# EAGLE library part ADC_ADS1115 (library LEMSv2)
ADS1115 - 16-bit 4-Channel I2C ADC with Internal PGA VDD: 2.0-5.5V Sampling Rate: 8-860ksps Gain Settings: 2/3, 1, 2, 4, 8, 16
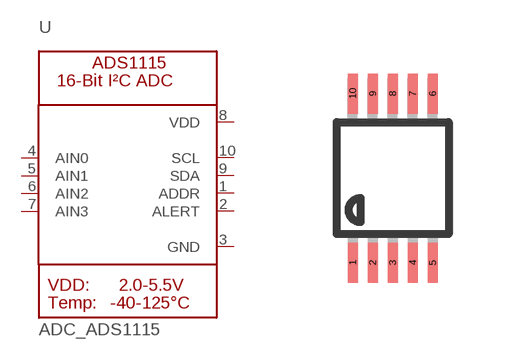
[diagram p10: symbol with the pads of MSOP10; footprint MSOP10]

Designator prefix U

## ADC_ADS1115  [MSOP10]
1  ADDR
2  ALERT
3  GND
4  AIN0
5  AIN1
6  AIN2
7  AIN3
8  VDD
9  SDA
10  SCL

## Footprint MSOP10 (pad centres in mm)
10-Lead Mini Small Outline Package [MSOP]
smd 0.25 x 1: 1 -1,-2.113; 2 -0.5,-2.113; 3 0,-2.113; 4 0.5,-2.113; 5 1,-2.113; 6 1,2.113; 7 0.5,2.113; 8 0,2.113; 9 -0.5,2.113; 10 -1,2.113